# Altium footprint library Adams Altium Library.PcbLib: 102 footprints (part 5 of 7)
Each footprint in its own frame and in the unit in brackets; x right, y up, seen from the top. Pads: shape width x height; smd on the part's side, far side on the other; paste and mask are expansions set on the pad; w line width, h text height; cw(c..) or ccw(c..) is an arc to the next point about the centre after c.
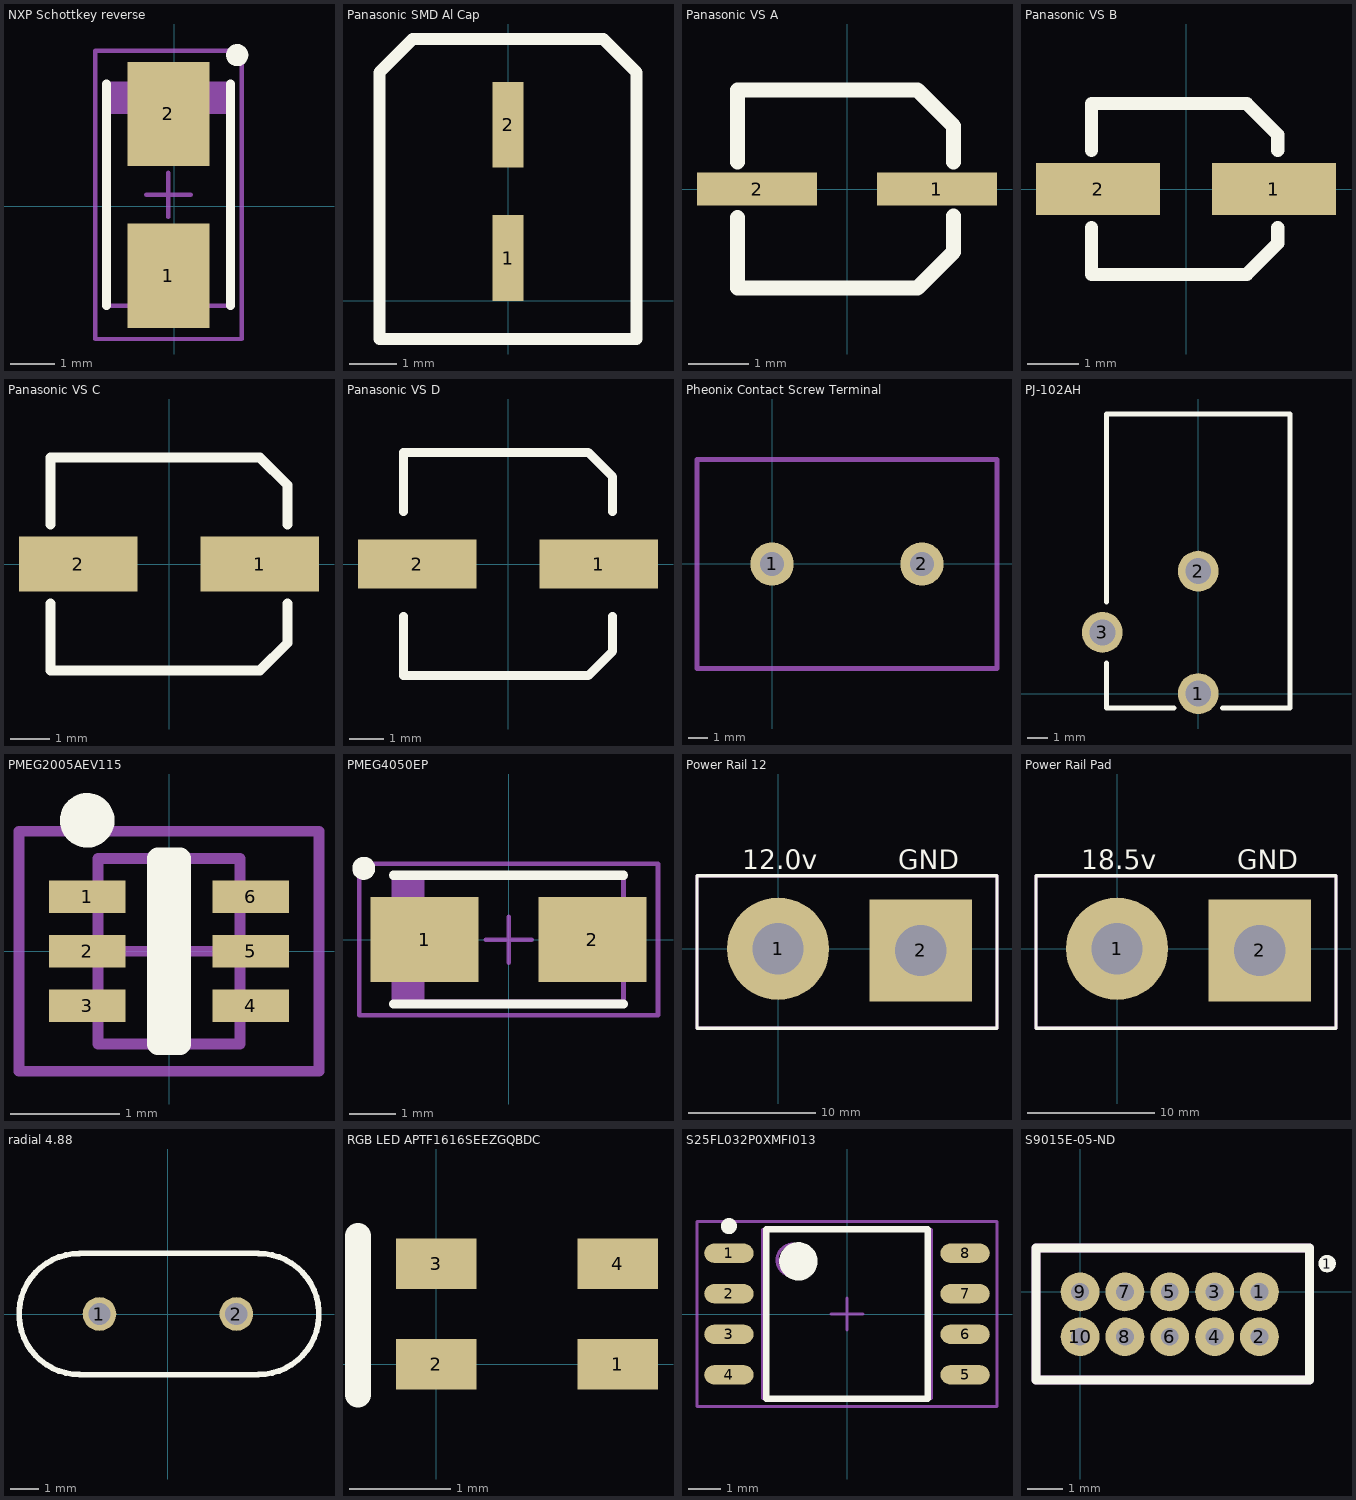
[diagram p4: the footprints below, top view; thin cyan lines are the x and y axes]

## NXP Schottkey reverse [mm]
pads (2):
  rect 1.85x2.35 smd: 1(-0.127,-1.571) 2(-0.127,2.079)
Top Overlay:
  circle w0.25: c1.423,3.404 r0.125
  lines w0.2: -1.527,-2.246 -1.527,2.754 ; 1.273,-2.246 1.273,2.754
Mechanical 13:
  region: -1.477,2.754 -1.477,2.081 1.223,2.081 1.223,2.754
  lines w0.1: -1.477,-2.246 -1.477,2.754 1.223,2.754 1.223,-2.246 -1.477,-2.246
Mechanical 15:
  lines w0.1: -0.627,0.254 0.373,0.254 ; -0.127,-0.246 -0.127,0.754 ; -1.777,-2.996 -1.777,3.504 1.523,3.504 1.523,-2.996 -1.777,-2.996
3D body: height 1.1, standoff 0, extent -1.477,-2.246 1.223,2.754

## Panasonic SMD Al Cap [mm] "Panasonic SMD Al Electrolytic Capacitor"
height 5.8
pads (2):
  rect 0.65x1.8 smd: 1(0,0.9) 2(0,3.7)
Top Overlay:
  lines w0.254: -2.7,-0.8 -2.7,4.8 -2,5.5 2,5.5 2.7,4.8 2.7,-0.8 -2.7,-0.8

## Panasonic VS A [mm]
pads (2):
  rect 2x0.55 smd: 1(1.5,0) 2(-1.5,0)
Top Overlay:
  lines w0.254: -1.825,-0.475 -1.825,-1.65 1.175,-1.65 1.775,-1.05 1.775,-0.45 ; -1.825,0.45 -1.825,1.65 1.175,1.65 1.775,1.05 1.775,0.45

## Panasonic VS B [mm]
pads (2):
  rect 2.4x1 smd: 1(1.7,0) 2(-1.7,0)
Top Overlay:
  lines w0.254: -1.825,-0.75 -1.825,-1.65 1.175,-1.65 1.775,-1.05 1.775,-0.75 ; -1.825,0.75 -1.825,1.65 1.175,1.65 1.775,1.05 1.775,0.75

## Panasonic VS C [mm]
pads (2):
  rect 3x1.4 smd: 1(2.3,0) 2(-2.3,0)
Top Overlay:
  lines w0.254: -3,-1 -3,-2.7 2.3,-2.7 3,-2 3,-1 ; -3,1 -3,2.7 2.3,2.7 3,2 3,1

## Panasonic VS D [mm]
pads (2):
  rect 3.4x1.4 smd: 1(2.6,0) 2(-2.6,0)
Top Overlay:
  lines w0.254: -3,-1.5 -3,-3.2 2.3,-3.2 3,-2.5 3,-1.5 ; -3,1.5 -3,3.2 2.3,3.2 3,2.5 3,1.5

## Pheonix Contact Screw Terminal [mm]
height 18
pads (2):
  round 2.2 hole 1.2: 1(0,0) 2(7.61,0)
Mechanical 13:
  lines w0.254: -3.81,-5.3 -3.81,5.3 11.42,5.3 11.42,-5.3 -3.81,-5.3

## PJ-102AH [mm] "Center positive 2.1 mm power jack"
height 11
pads (3):
  round 2 hole 1.27: 1(0,0) 2(0,6) 3(-4.7,3)
Top Overlay:
  lines w0.254: -4.5,1.5 -4.5,-0.7 -1.2,-0.7 ; -4.5,4.5 -4.5,13.7 4.5,13.7 4.5,-0.7 1.2,-0.7
3D body: height 11, standoff 0, extent -5.8,-0.7 4.5,13.7

## PMEG2005AEV115 [mm] "SOT23, 6-Leads, Body 1.7x1.7mm (max), Pitch 0.50mm, IPC Medium Density"
height 0.6
pads (6):
  rect 0.7x0.3 smd: 1(-0.75,0.5) 2(-0.75,0) 3(-0.75,-0.5) 4(0.75,-0.5) 5(0.75,0) 6(0.75,0.5)
Top Overlay:
  circle w0.25: c-0.75,1.2 r0.125
  lines w0.2: -0.1,-0.85 0.1,-0.85 0.1,0.85 -0.1,0.85 -0.1,-0.85
Mechanical 13:
  lines w0.1: -0.65,-0.85 -0.65,0.85 0.65,0.85 0.65,-0.85 -0.65,-0.85
Mechanical 15:
  lines w0.1: -0.5,0 0.5,0 ; 0,-0.5 0,0.5 ; -1.375,-1.1 -1.375,1.1 1.375,1.1 1.375,-1.1 -1.375,-1.1
3D body: height 0.6, standoff 0.5, extent -0.65,-0.85 0.65,0.85

## PMEG4050EP [mm] "PMEG4050EP NXP SMD Schottky Diode"
height 1.1
pads (2):
  rect 2.35x1.85 smd: 1(-1.825,0) 2(1.825,0)
Top Overlay:
  circle w0.25: c-3.15,1.55 r0.125
  lines w0.2: -2.5,-1.4 2.5,-1.4 ; -2.5,1.4 2.5,1.4
Mechanical 13:
  rectangle: -2.5,-1.35 -1.827,1.35
  lines w0.1: -2.5,-1.35 -2.5,1.35 2.5,1.35 2.5,-1.35 -2.5,-1.35
Mechanical 15:
  lines w0.1: -0.5,0 0.5,0 ; 0,-0.5 0,0.5 ; -3.25,-1.65 -3.25,1.65 3.25,1.65 3.25,-1.65 -3.25,-1.65
3D body: height 1.1, standoff 0, extent -2.5,-1.35 2.5,1.35

## Power Rail 12 [mm]
pads (2):
  round 8 hole 4: 1(0,0)
  rect 8x8 hole 4: 2(11.176,-0.127)
Top Overlay:
  lines w0.254: -6.35,-6.223 17.145,-6.223 17.145,5.715 -6.35,5.715 -6.35,-6.096 -6.35,-6.223
  text "12.0v" at -2.794,6.223 h1.52
  text "GND" at 9.398,6.223 h1.52
Mechanical 13:
  lines w0.254: -6.35,-6.223 17.145,-6.223 17.145,5.715 -6.35,5.715 -6.35,-6.223

## Power Rail Pad [mm] "Custom pad for WAVE power rails"
pads (2):
  round 8 hole 4: 1(0,0)
  rect 8x8 hole 4: 2(11.176,-0.127)
Top Overlay:
  lines w0.254: -6.35,-6.223 -6.35,-6.096 -6.35,5.715 17.145,5.715 17.145,-6.223 -6.35,-6.223
  text "GND" at 9.398,6.223 h1.52
  text "18.5v" at -2.794,6.223 h1.52
Mechanical 13:
  lines w0.254: -6.35,-6.223 -6.35,5.715 17.145,5.715 17.145,-6.223 -6.35,-6.223

## radial 4.88 [mm]
pads (2):
  round 1.2 hole 0.8: 1(-2.44,0) 2(2.44,0)
Top Overlay:
  lines w0.2: -3.15,2.159 3.226,2.159 ; -3.124,-2.159 3.226,-2.159
  lines w0.203: -3.15,-2.159 cw(c-3.15,0) -3.15,2.159 ; 3.226,-2.159 ccw(c3.226,0) 3.226,2.159

## RGB LED APTF1616SEEZGQBDC [mm] "RGB LED"
pads (4):
  rect 0.8x0.5 smd: 1(1.8,0) 2(0,0) 3(0,1) 4(1.8,1)
Top Overlay:
  lines w0.254: -0.775,-0.3 -0.775,1.275

## S25FL032P0XMFI013 [mm] "SOP, 8-Leads, Body 5.3x5.3mm (max), Pitch 1.27mm, IPC Medium Density"
height 2.159
pads (8):
  oval 1.55x0.6 smd: 1(-3.7,1.905) 2(-3.7,0.635) 3(-3.7,-0.635) 4(-3.7,-1.905) 5(3.7,-1.905) 6(3.7,-0.635) 7(3.7,0.635) 8(3.7,1.905)
Top Overlay:
  circle w0.25: c-3.7,2.755 r0.125
  circle w0.6: c-1.525,1.65 r0.3
  lines w0.2: -2.525,-2.65 -2.525,2.65 2.525,2.65 2.525,-2.65 -2.525,-2.65
Mechanical 13:
  circle w0.1: c-1.69,1.69 r0.5
  lines w0.1: -2.64,-2.64 -2.64,2.64 2.64,2.64 2.64,-2.64 -2.64,-2.64
Mechanical 15:
  lines w0.1: -0.5,0 0.5,0 ; 0,-0.5 0,0.5 ; -4.7,-2.9 -4.7,2.9 4.7,2.9 4.7,-2.9 -4.7,-2.9
3D body: height 2.16, standoff 0.05, extent -2.64,-2.64 2.64,2.64

## S9015E-05-ND [mm] "10 Pin Cortex JTAG Debug Header"
pads (11):
  round 1.1 hole 0.508: 1(5.08,0) 2(5.08,-1.27) 3(3.81,0) 4(3.81,-1.27) 5(2.54,0) 6(2.54,-1.27) 7(1.27,0) 8(1.27,-1.27) 9(0,0) 10(0,-1.27)
  round 0.5 on Top Overlay: 1(7,0.8)
Top Overlay:
  lines w0.254: -1.25,-2.5 6.5,-2.5 6.5,1.25 -1.25,1.25 -1.25,-2.5
Mechanical 13:
  lines w0.254: -1.25,-2.5 6.5,-2.5 6.5,1.25 -1.25,1.25 -1.25,-2.5